# EAGLE library part PA_MAPLE (library PatternAgents-Interface)
PatternAgents Maple Dual Interface Pattern Source LBR : http://www.patternagents.com Github : https://github.com/patternagents License : http://creativecommons.org/licenses/by-sa/4.0/ (Creative Commons 4.0) THIS SOFTWARE IS PROVIDED BY THE CONTRIBUTORS "AS IS" AND WITHOUT ANY EXPRESS OR IMPLIED WARRANTIES, INCLUDING, BUT NOT LIMITED TO, THE IMPLIED WARRANTIES OF MERCHANTABILITY AND FITNESS FOR A PARTICULAR PURPOSE ARE DISCLAIMED. IN NO EVENT SHALL THE COPYRIGHT OWNER OR CONTRIBUTORS BE LIABLE FOR ANY DIRECT, INDIRECT, INCIDENTAL, SPECIAL, EXEMPLARY, OR CONSEQUENTIAL DAMAGES (INCLUDING, BUT NOT LIMITED TO, PROCUREMENT OF SUBSTITUTE GOODS OR SERVICES; LOSS OF USE, DATA, OR PROFITS; OR BUSINESS INTERRUPTION) HOWEVER CAUSED AND ON ANY THEORY OF LIABILITY, WHETHER IN CONTRACT, STRICT LIABILITY, OR TORT (INCLUDING NEGLIGENCE OR OTHERWISE) ARISING IN ANY WAY OUT OF THE USE OF THIS SOFTWARE, EVEN IF ADVISED OF THE POSSIBILITY OF SUCH DAMAGE.
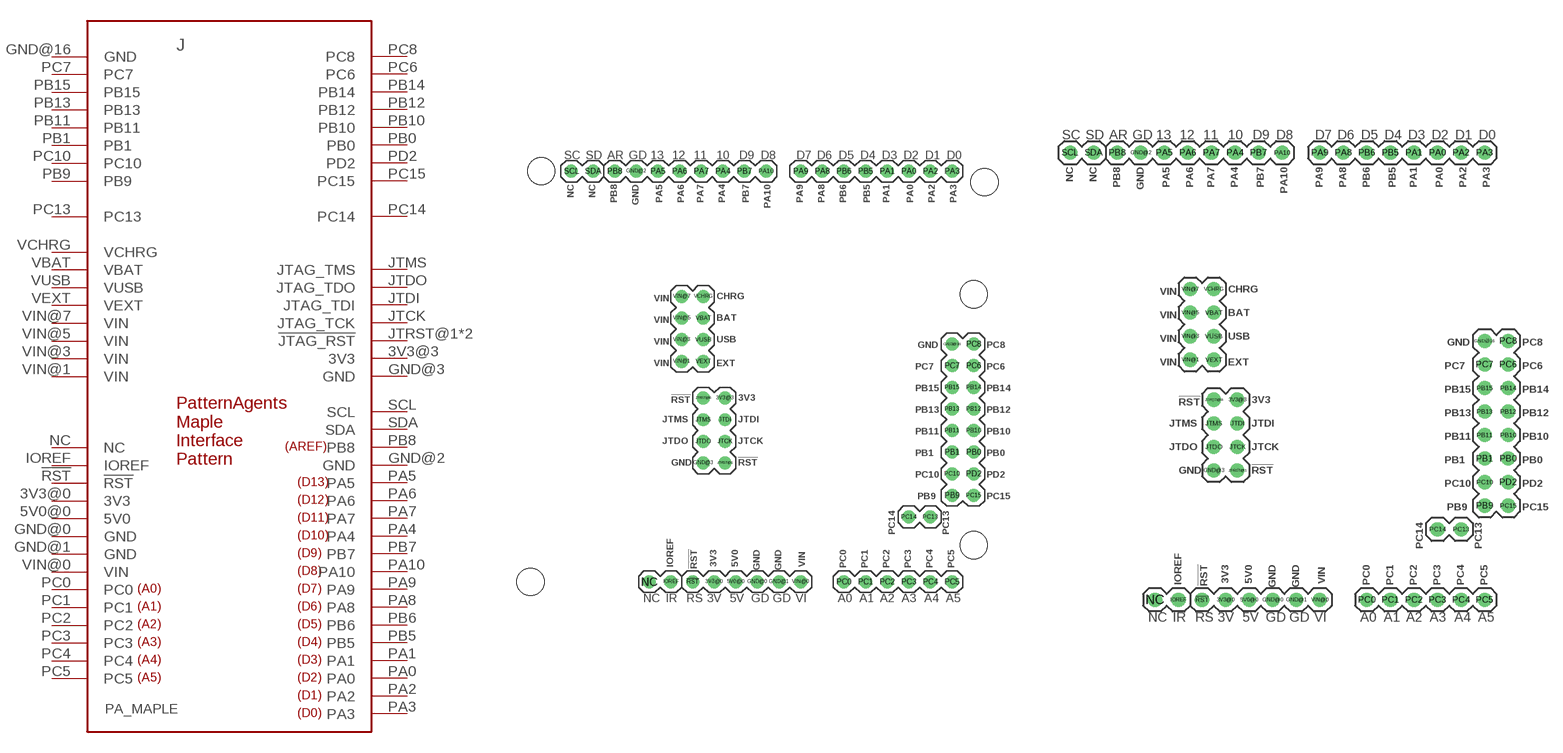
[diagram p12: symbol with the pads of PA_MAPLE; footprints PA_MAPLE, PA_MAPLE_NO_HOLES]

Designator prefix J

## PA_MAPLE  [PA_MAPLE]
3V3@0  3V3
3V3@3  3V3  pwr
5V0@0  5V0
!RST  !RST
GND@0  GND
GND@1  GND
GND@2  GND
GND@3  GND  pwr
GND@16  GND
IOREF  IOREF  out
JTCK  JTAG_TCK
JTDI  JTAG_TDI
JTDO  JTAG_TDO
JTMS  JTAG_TMS
JTRST@1  !JTAG_RST
JTRST@8  !JTAG_RST
NC  NC  pwr
PA0  PA0
PA1  PA1
PA2  PA2
PA3  PA3
PA4  PA4
PA5  PA5
PA6  PA6
PA7  PA7
PA8  PA8
PA9  PA9
PA10  PA10
PB0  PB0
PB1  PB1
PB5  PB5
PB6  PB6
PB7  PB7
PB8  PB8
PB9  PB9
PB10  PB10
PB11  PB11
PB12  PB12
PB13  PB13
PB14  PB14
PB15  PB15
PC0  PC0
PC1  PC1
PC2  PC2
PC3  PC3
PC4  PC4
PC5  PC5
PC6  PC6
PC7  PC7
PC8  PC8
PC10  PC10
PC13  PC13
PC14  PC14
PC15  PC15
PD2  PD2
SCL  SCL
SDA  SDA
VBAT  VBAT  pwr
VCHRG  VCHRG  pwr
VEXT  VEXT  pwr
VIN@0  VIN
VIN@1  VIN  pwr
VIN@3  VIN  pwr
VIN@5  VIN  pwr
VIN@7  VIN  pwr
VUSB  VUSB  pwr

## PA_MAPLENH  [PA_MAPLE_NO_HOLES]
Pads as for PA_MAPLE

## Footprint PA_MAPLE (pad centres in mm)
PatternAgents Maple Dual Interface Pattern Source LBR : http://www.patternagents.com Github : https://github.com/patternagents License : http://creativecommons.org/licenses/by-sa/4.0/ (Creative Commons 4.0) THIS SOFTWARE IS PROVIDED BY THE CONTRIBUTORS "AS IS" AND WITHOUT ANY EXPRESS OR IMPLIED WARRANTIES, INCLUDING, BUT NOT LIMITED TO, THE IMPLIED WARRANTIES OF MERCHANTABILITY AND FITNESS FOR A PARTICULAR PURPOSE ARE DISCLAIMED. IN NO EVENT SHALL THE COPYRIGHT OWNER OR CONTRIBUTORS BE LIABLE FOR ANY DIRECT, INDIRECT, INCIDENTAL, SPECIAL, EXEMPLARY, OR CONSEQUENTIAL DAMAGES (INCLUDING, BUT NOT LIMITED TO, PROCUREMENT OF SUBSTITUTE GOODS OR SERVICES; LOSS OF USE, DATA, OR PROFITS; OR BUSINESS INTERRUPTION) HOWEVER CAUSED AND ON ANY THEORY OF LIABILITY, WHETHER IN CONTRACT, STRICT LIABILITY, OR TORT (INCLUDING NEGLIGENCE OR OTHERWISE) ARISING IN ANY WAY OUT OF THE USE OF THIS SOFTWARE, EVEN IF ADVISED OF THE POSSIBILITY OF SUCH DAMAGE.
drill 1.016: 3V3@0 24.13,2.54; 3V3@3 25.4,24.13; 5V0@0 26.67,2.54; !RST 21.59,2.54; GND@0 29.21,2.54; GND@1 31.75,2.54; GND@2 14.986,50.8; GND@3 22.86,16.51; GND@16 52.07,30.48; IOREF 19.05,2.54; JTCK 25.4,19.05; JTDI 25.4,21.59; JTDO 22.86,19.05; JTMS 22.86,21.59; JTRST@1 25.4,16.51; JTRST@8 22.86,24.13; NC 16.51,2.54; PA0 46.99,50.8; PA1 44.45,50.8; PA2 49.53,50.8; PA3 52.07,50.8; PA4 25.146,50.8; PA5 17.526,50.8; PA6 20.066,50.8; PA7 22.606,50.8; PA8 36.83,50.8; PA9 34.29,50.8; PA10 30.226,50.8; PB0 54.61,17.78; PB1 52.07,17.78; PB5 41.91,50.8; PB6 39.37,50.8; PB7 27.686,50.8; PB8 12.446,50.8; PB9 52.07,12.7; PB10 54.61,20.32; PB11 52.07,20.32; PB12 54.61,22.86; PB13 52.07,22.86; PB14 54.61,25.4; PB15 52.07,25.4; PC0 39.37,2.54; PC1 41.91,2.54; PC2 44.45,2.54; PC3 46.99,2.54; PC4 49.53,2.54; PC5 52.07,2.54; PC6 54.61,27.94; PC7 52.07,27.94; PC8 54.61,30.48; PC10 52.07,15.24; PC13 49.53,10.16; PC14 46.99,10.16; PC15 54.61,12.7; PD2 54.61,15.24; SCL 7.366,50.8; SDA 9.906,50.8; VBAT 22.86,33.528; VCHRG 22.86,36.068; VEXT 22.86,28.448; VIN@0 34.29,2.54; VIN@1 20.32,28.448; VIN@3 20.32,30.988; VIN@5 20.32,33.528; VIN@7 20.32,36.068; VUSB 22.86,30.988
hole 3.2 at 3.81,50.8
hole 3.2 at 2.54,2.54
hole 3.2 at 54.61,6.858
hole 3.2 at 54.61,36.322
hole 3.2 at 55.88,49.53

## Footprint PA_MAPLE_NO_HOLES (pad centres in mm)
PatternAgents Maple Dual Interface Pattern (No Holes) Source LBR : http://www.patternagents.com Github : https://github.com/patternagents License : http://creativecommons.org/licenses/by-sa/4.0/ (Creative Commons 4.0) THIS SOFTWARE IS PROVIDED BY THE CONTRIBUTORS "AS IS" AND WITHOUT ANY EXPRESS OR IMPLIED WARRANTIES, INCLUDING, BUT NOT LIMITED TO, THE IMPLIED WARRANTIES OF MERCHANTABILITY AND FITNESS FOR A PARTICULAR PURPOSE ARE DISCLAIMED. IN NO EVENT SHALL THE COPYRIGHT OWNER OR CONTRIBUTORS BE LIABLE FOR ANY DIRECT, INDIRECT, INCIDENTAL, SPECIAL, EXEMPLARY, OR CONSEQUENTIAL DAMAGES (INCLUDING, BUT NOT LIMITED TO, PROCUREMENT OF SUBSTITUTE GOODS OR SERVICES; LOSS OF USE, DATA, OR PROFITS; OR BUSINESS INTERRUPTION) HOWEVER CAUSED AND ON ANY THEORY OF LIABILITY, WHETHER IN CONTRACT, STRICT LIABILITY, OR TORT (INCLUDING NEGLIGENCE OR OTHERWISE) ARISING IN ANY WAY OUT OF THE USE OF THIS SOFTWARE, EVEN IF ADVISED OF THE POSSIBILITY OF SUCH DAMAGE.
drill 1.016: 3V3@0 24.13,2.54; 3V3@3 25.4,24.13; 5V0@0 26.67,2.54; !RST 21.59,2.54; GND@0 29.21,2.54; GND@1 31.75,2.54; GND@2 14.986,50.8; GND@3 22.86,16.51; GND@16 52.07,30.48; IOREF 19.05,2.54; JTCK 25.4,19.05; JTDI 25.4,21.59; JTDO 22.86,19.05; JTMS 22.86,21.59; JTRST@1 25.4,16.51; JTRST@8 22.86,24.13; NC 16.51,2.54; PA0 46.99,50.8; PA1 44.45,50.8; PA2 49.53,50.8; PA3 52.07,50.8; PA4 25.146,50.8; PA5 17.526,50.8; PA6 20.066,50.8; PA7 22.606,50.8; PA8 36.83,50.8; PA9 34.29,50.8; PA10 30.226,50.8; PB0 54.61,17.78; PB1 52.07,17.78; PB5 41.91,50.8; PB6 39.37,50.8; PB7 27.686,50.8; PB8 12.446,50.8; PB9 52.07,12.7; PB10 54.61,20.32; PB11 52.07,20.32; PB12 54.61,22.86; PB13 52.07,22.86; PB14 54.61,25.4; PB15 52.07,25.4; PC0 39.37,2.54; PC1 41.91,2.54; PC2 44.45,2.54; PC3 46.99,2.54; PC4 49.53,2.54; PC5 52.07,2.54; PC6 54.61,27.94; PC7 52.07,27.94; PC8 54.61,30.48; PC10 52.07,15.24; PC13 49.53,10.16; PC14 46.99,10.16; PC15 54.61,12.7; PD2 54.61,15.24; SCL 7.366,50.8; SDA 9.906,50.8; VBAT 22.86,33.528; VCHRG 22.86,36.068; VEXT 22.86,28.448; VIN@0 34.29,2.54; VIN@1 20.32,28.448; VIN@3 20.32,30.988; VIN@5 20.32,33.528; VIN@7 20.32,36.068; VUSB 22.86,30.988